# Altium footprint library 信标封装.PcbLib: 1 footprints
Each footprint in its own frame and in the unit in brackets; x right, y up, seen from the top. Pads: shape width x height; smd on the part's side, far side on the other; paste and mask are expansions set on the pad; w line width, h text height; cw(c..) or ccw(c..) is an arc to the next point about the centre after c.
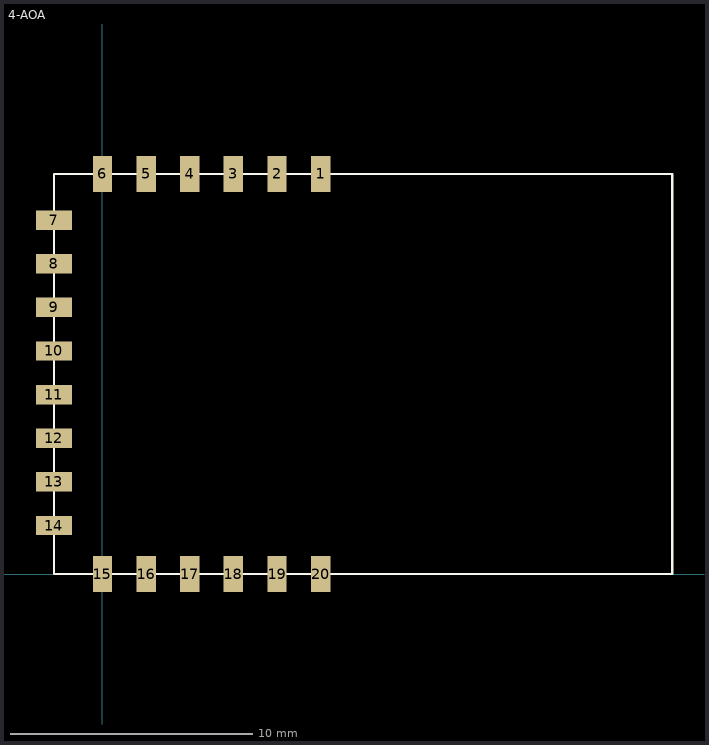
[diagram p0: the footprint, top view; thin cyan lines are the x and y axes]

## 4-AOA [mm]
pads (20):
  rect 0.8x1.5 smd: 1(9,16.5) 2(7.2,16.5) 3(5.4,16.5) 5(1.8,16.5) 6(0,16.5) 15(0,0) 16(1.8,0) 17(3.6,0) 18(5.4,0) 19(7.2,0)
  rect 0.8x1.5 smd mask+0.102: 4(3.6,16.5) 20(9,0)
  rect 1.5x0.8 smd: 7(-2,14.6) 8(-2,12.8) 10(-2,9.2) 11(-2,7.4) 12(-2,5.6) 13(-2,3.8) 14(-2,2)
  rect 1.5x0.8 smd mask+0.102: 9(-2,11)
Top Overlay:
  lines w0.1: -2,0 23.5,0 23.5,16.5 -1.985,16.5 -2,16.485 -2,0